# EAGLE library part USBB (library xess)
USB B connector
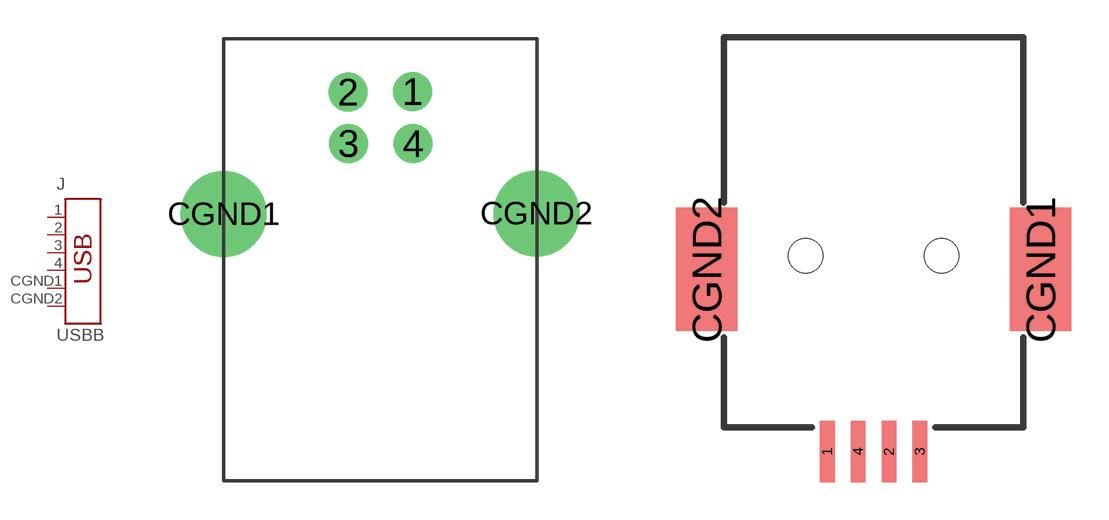
[diagram p9: symbol with the pads of USBB; footprints USBB, KUSBX-SMT-BS1N]

Designator prefix J

## USBBTHRU  [USBB]
1  1  pas
2  2  pas
3  3  pas
4  4  pas
CGND1  CGND1  pas
CGND2  CGND2  pas

## USBBSMT  [KUSBX-SMT-BS1N]
Pads as for USBB

## Footprint USBB (pad centres in mm)
drill 1 round: 1 -0.01,0.02; 2 -2.5,0; 3 -2.48,-1.98; 4 0.01,-1.99
drill 2.3 round: CGND1 -7.3,-4.7; CGND2 4.77,-4.678

## Footprint KUSBX-SMT-BS1N (pad centres in mm)
smd 0.6 x 2.5: 1 -1.875,-16.77; 2 0.625,-16.77; 3 1.875,-16.77; 4 -0.625,-16.77
smd 2.5 x 5: CGND1 6.75,-9.4; CGND2 -6.75,-9.4
hole 1.4 at -2.75,-8.85
hole 1.4 at 2.75,-8.85